# Altium schematic symbol library sensor_radar.SchLib: 1 symbol
Pins are listed as number, name and electrical type; pins without a type are passive.

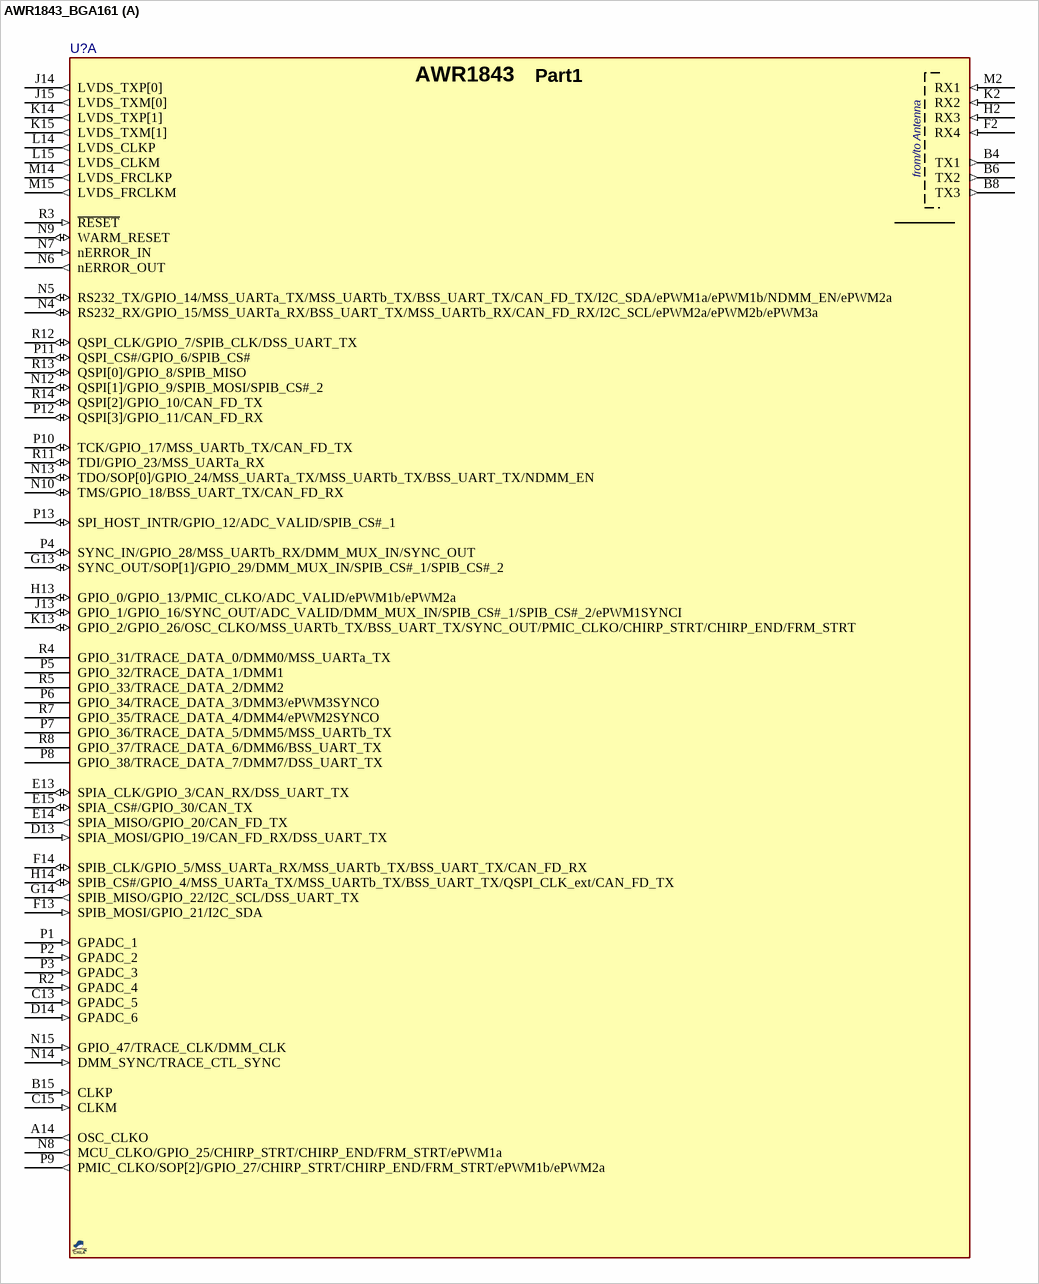
[diagram p0: symbol AWR1843_BGA161]

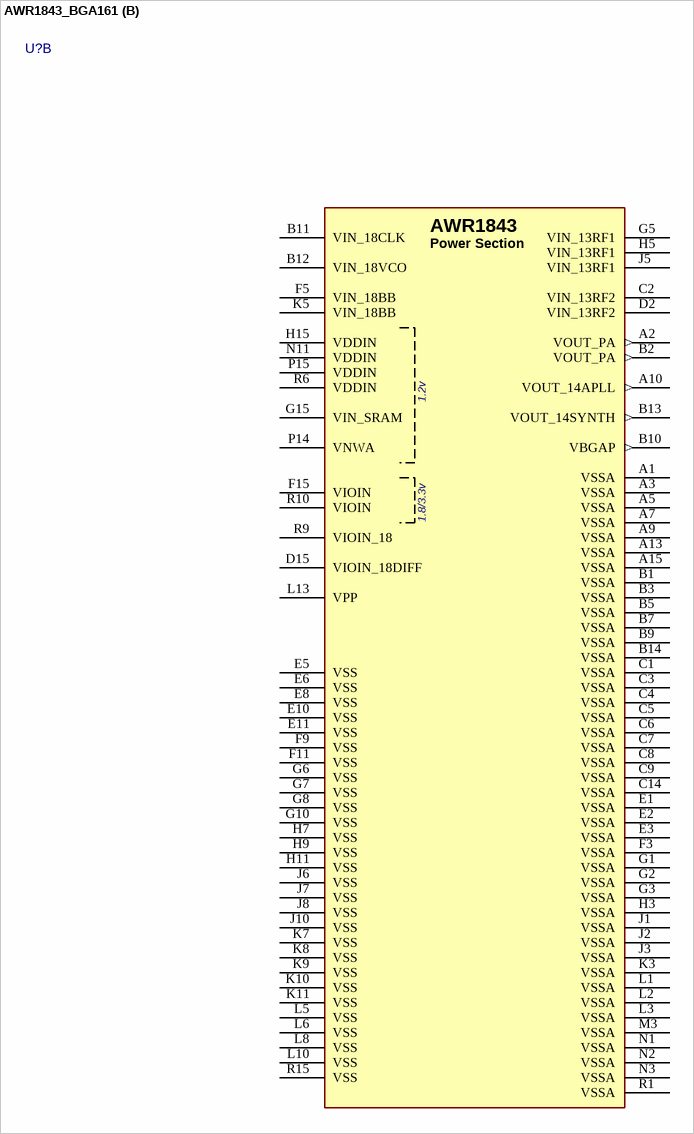
[diagram p1: symbol AWR1843_BGA161]

## AWR1843_BGA161
designator U?, comment AWR1843  (value not drawn)
Radar Sensor, mmWave, 77~79GHz; MANF: Texas Instruments; MANF_P#: AWR1843ABGABL, AWR1843ABSABL; PARAM: 77~79GHz, -40~125°C; PACKAGE: BGA-161; VALUE: AWR1843
footprint ABL0161B (BGA, 161-Balls, Body 10.4x10.4mm, Pitch 0.65mm)
part A pins: A14 OSC_CLKO (out), B4 TX1 (out), B6 TX2 (out), B8 TX3 (out), B15 CLKP (in), C13 GPADC_5 (in), C15 CLKM (in), D13 SPIA_MOSI/GPIO_19/CAN_FD_RX/DSS_UART_TX (in), D14 GPADC_6 (in), E13 SPIA_CLK/GPIO_3/CAN_RX/DSS_UART_TX (io), E14 SPIA_MISO/GPIO_20/CAN_FD_TX (out), E15 SPIA_CS#/GPIO_30/CAN_TX (io), F2 RX4 (in), F13 SPIB_MOSI/GPIO_21/I2C_SDA (in), F14 SPIB_CLK/GPIO_5/MSS_UARTa_RX/MSS_UARTb_TX/BSS_UART_TX/CAN_FD_RX (io), G13 SYNC_OUT/SOP[1]/GPIO_29/DMM_MUX_IN/SPIB_CS#_1/SPIB_CS#_2 (io), G14 SPIB_MISO/GPIO_22/I2C_SCL/DSS_UART_TX (out), H2 RX3 (in), H13 GPIO_0/GPIO_13/PMIC_CLKO/ADC_VALID/ePWM1b/ePWM2a (io), H14 SPIB_CS#/GPIO_4/MSS_UARTa_TX/MSS_UARTb_TX/BSS_UART_TX/QSPI_CLK_ext/CAN_FD_TX (io), J13 GPIO_1/GPIO_16/SYNC_OUT/ADC_VALID/DMM_MUX_IN/SPIB_CS#_1/SPIB_CS#_2/ePWM1SYNCI (io), J14 LVDS_TXP[0] (out), J15 LVDS_TXM[0] (out), K2 RX2 (in), K13 GPIO_2/GPIO_26/OSC_CLKO/MSS_UARTb_TX/BSS_UART_TX/SYNC_OUT/PMIC_CLKO/CHIRP_STRT/CHIRP_END/FRM_STRT (io), K14 LVDS_TXP[1] (out), K15 LVDS_TXM[1] (out), L14 LVDS_CLKP (out), L15 LVDS_CLKM (out), M2 RX1 (in), M14 LVDS_FRCLKP (out), M15 LVDS_FRCLKM (out), N4 RS232_RX/GPIO_15/MSS_UARTa_RX/BSS_UART_TX/MSS_UARTb_RX/CAN_FD_RX/I2C_SCL/ePWM2a/ePWM2b/ePWM3a (io), N5 RS232_TX/GPIO_14/MSS_UARTa_TX/MSS_UARTb_TX/BSS_UART_TX/CAN_FD_TX/I2C_SDA/ePWM1a/ePWM1b/NDMM_EN/ePWM2a (io), N6 nERROR_OUT (out), N7 nERROR_IN (in), N8 MCU_CLKO/GPIO_25/CHIRP_STRT/CHIRP_END/FRM_STRT/ePWM1a (out), N9 WARM_RESET (io), N10 TMS/GPIO_18/BSS_UART_TX/CAN_FD_RX (io), N12 QSPI[1]/GPIO_9/SPIB_MOSI/SPIB_CS#_2 (io), N13 TDO/SOP[0]/GPIO_24/MSS_UARTa_TX/MSS_UARTb_TX/BSS_UART_TX/NDMM_EN (io), N14 DMM_SYNC/TRACE_CTL_SYNC (in), N15 GPIO_47/TRACE_CLK/DMM_CLK (in), P1 GPADC_1 (in), P2 GPADC_2 (in), P3 GPADC_3 (in), P4 SYNC_IN/GPIO_28/MSS_UARTb_RX/DMM_MUX_IN/SYNC_OUT (io), P5 GPIO_32/TRACE_DATA_1/DMM1, P6 GPIO_34/TRACE_DATA_3/DMM3/ePWM3SYNCO, P7 GPIO_36/TRACE_DATA_5/DMM5/MSS_UARTb_TX, P8 GPIO_38/TRACE_DATA_7/DMM7/DSS_UART_TX, P9 PMIC_CLKO/SOP[2]/GPIO_27/CHIRP_STRT/CHIRP_END/FRM_STRT/ePWM1b/ePWM2a (out), P10 TCK/GPIO_17/MSS_UARTb_TX/CAN_FD_TX (io), P11 QSPI_CS#/GPIO_6/SPIB_CS# (io), P12 QSPI[3]/GPIO_11/CAN_FD_RX (io), P13 SPI_HOST_INTR/GPIO_12/ADC_VALID/SPIB_CS#_1 (io), R2 GPADC_4 (in), R3 ~{RESET} (in), R4 GPIO_31/TRACE_DATA_0/DMM0/MSS_UARTa_TX, R5 GPIO_33/TRACE_DATA_2/DMM2, R7 GPIO_35/TRACE_DATA_4/DMM4/ePWM2SYNCO, R8 GPIO_37/TRACE_DATA_6/DMM6/BSS_UART_TX, R11 TDI/GPIO_23/MSS_UARTa_RX (io), R12 QSPI_CLK/GPIO_7/SPIB_CLK/DSS_UART_TX (io), R13 QSPI[0]/GPIO_8/SPIB_MISO (io), R14 QSPI[2]/GPIO_10/CAN_FD_TX (io)
part B pins: A1 VSSA (power), A2 VOUT_PA (out), A3 VSSA (power), A5 VSSA (power), A7 VSSA (power), A9 VSSA (power), A10 VOUT_14APLL (out), A13 VSSA (power), A15 VSSA (power), B1 VSSA (power), B2 VOUT_PA (out), B3 VSSA (power), B5 VSSA (power), B7 VSSA (power), B9 VSSA (power), B10 VBGAP (out), B11 VIN_18CLK (power), B12 VIN_18VCO (power), B13 VOUT_14SYNTH (out), B14 VSSA (power), C1 VSSA (power), C2 VIN_13RF2 (power), C3 VSSA (power), C4 VSSA (power), C5 VSSA (power), C6 VSSA (power), C7 VSSA (power), C8 VSSA (power), C9 VSSA (power), C14 VSSA (power), D2 VIN_13RF2 (power), D15 VIOIN_18DIFF (power), E1 VSSA (power), E2 VSSA (power), E3 VSSA (power), E5 VSS (power), E6 VSS (power), E8 VSS (power), E10 VSS (power), E11 VSS (power), F3 VSSA (power), F5 VIN_18BB (power), F9 VSS (power), F11 VSS (power), F15 VIOIN (power), G1 VSSA (power), G2 VSSA (power), G3 VSSA (power), G5 VIN_13RF1 (power), G6 VSS (power), G7 VSS (power), G8 VSS (power), G10 VSS (power), G15 VIN_SRAM (power), H3 VSSA (power), H5 VIN_13RF1 (power), H7 VSS (power), H9 VSS (power), H11 VSS (power), H15 VDDIN (power), J1 VSSA (power), J2 VSSA (power), J3 VSSA (power), J5 VIN_13RF1 (power), J6 VSS (power), J7 VSS (power), J8 VSS (power), J10 VSS (power), K3 VSSA (power), K5 VIN_18BB (power), K7 VSS (power), K8 VSS (power), K9 VSS (power), K10 VSS (power), K11 VSS (power), L1 VSSA (power), L2 VSSA (power), L3 VSSA (power), L5 VSS (power), L6 VSS (power), L8 VSS (power), L10 VSS (power), L13 VPP (power), M3 VSSA (power), N1 VSSA (power), N2 VSSA (power), N3 VSSA (power), N11 VDDIN (power), P14 VNWA (power), P15 VDDIN (power), R1 VSSA (power), R6 VDDIN (power), R9 VIOIN_18 (power), R10 VIOIN (power), R15 VSS (power)
part A text: Part1; from/to Antenna
part B text: Power Section; 1.2v; 1.8/3.3v